# Altium footprint library 18pin_holes.PcbLib: 1 footprints
Each footprint in its own frame and in the unit in brackets; x right, y up, seen from the top. Pads: shape width x height; smd on the part's side, far side on the other; paste and mask are expansions set on the pad; w line width, h text height; cw(c..) or ccw(c..) is an arc to the next point about the centre after c.
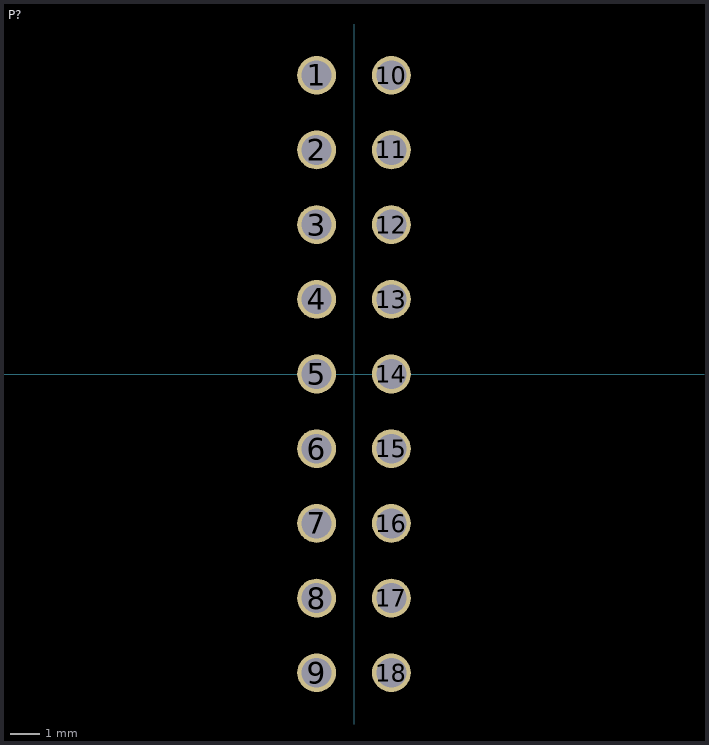
[diagram p0: the footprint, top view; thin cyan lines are the x and y axes]

## P? [mm] "PicoBlade connector RA 12 way"
pads (18):
  round 1.3 hole 1: 1(-1.25,10) 2(-1.25,7.5) 3(-1.25,5) 4(-1.25,2.5) 5(-1.25,0) 6(-1.25,-2.5) 7(-1.25,-5) 8(-1.25,-7.5) 9(-1.25,-10) 10(1.25,10) 11(1.25,7.5) 12(1.25,5) 13(1.25,2.5) 14(1.25,0) 15(1.25,-2.5) 16(1.25,-5) 17(1.25,-7.5) 18(1.25,-10)